# EAGLE library part 0170_PCA9306 (library BNO055)
DUAL BIDIRECTIONAL I2C BUS AND SMBus VOLTAGE-LEVEL TRANSLATOR - PCA9306
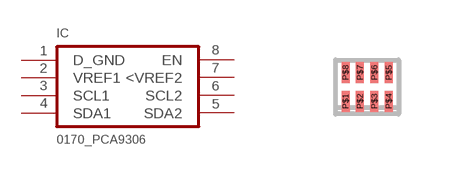
[diagram p1: symbol with the pads of DQER-N8; footprint DQER-N8]

Designator prefix IC

## 0170_PCA9306 (MONTHLY_USAGE: _____; PART_NUMBER: PCA9306; PRICE: _____; SUPPLIER: _____; TYPE: Circuito_Integrato; VALUE: PCA9306TI)  [DQER-N8]
P$1  D_GND  pwr
P$2  VREF1  pwr
P$3  SCL1
P$4  SDA1
P$5  SDA2
P$6  SCL2
P$7  <VREF2  pwr
P$8  EN  in

## Footprint DQER-N8 (pad centres in mm)
smd 0.2 x 0.53: P$1 -0.54,-0.36; P$2 -0.18,-0.36; P$3 0.18,-0.36; P$4 0.54,-0.36; P$5 0.54,0.36; P$6 0.18,0.36; P$7 -0.18,0.36; P$8 -0.54,0.36